# Altium footprint library WIZ-IP55.PcbLib: 1 footprints
Each footprint in its own frame and in the unit in brackets; x right, y up, seen from the top. Pads: shape width x height; smd on the part's side, far side on the other; paste and mask are expansions set on the pad; w line width, h text height; cw(c..) or ccw(c..) is an arc to the next point about the centre after c.
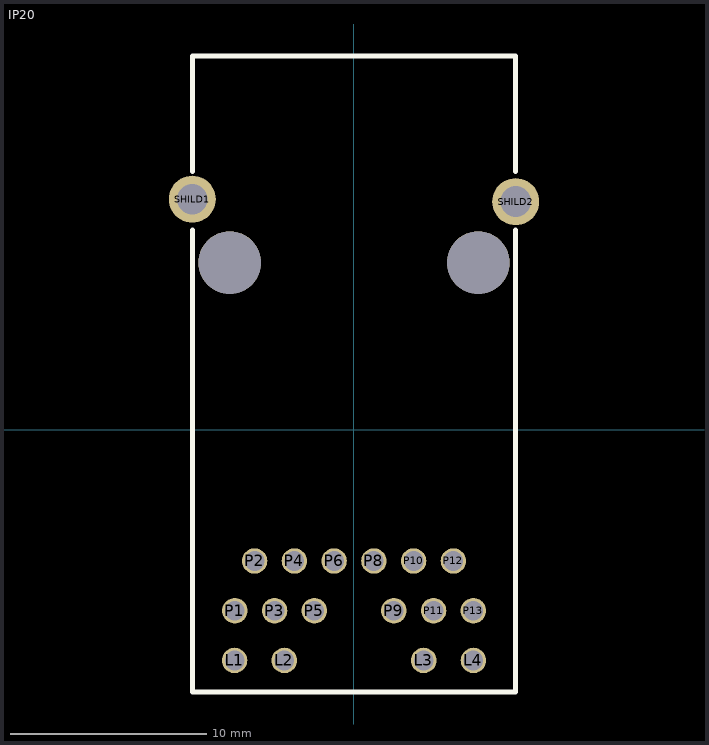
[diagram p0: the footprint, top view; thin cyan lines are the x and y axes]

## IP20 [mm]
pads (20):
  round 1.3 hole 1: L1(-6.1,-11.78) L2(-3.56,-11.78) L3(3.56,-11.78) L4(6.1,-11.78) P1(-6.085,-9.24) P2(-5.075,-6.7) P3(-4.055,-9.24) P4(-3.045,-6.7) P5(-2.025,-9.24) P6(-1.015,-6.7) P8(1.015,-6.7) P9(2.035,-9.24) P10(3.045,-6.7) P11(4.065,-9.24) P12(5.075,-6.7) P13(6.095,-9.24)
  round 2.4 hole 1.57: SHILD1(-8.255,11.78) SHILD2(8.255,11.653)
  round 3.2 hole 3.2 unplated: ""(-6.35,8.54) ""(6.35,8.54)
Top Overlay:
  lines w0.254: -8.25,10.199 -8.25,-13.4 8.25,-13.4 8.25,10.199 ; -8.25,13.2 -8.25,19.099 8.25,19.099 8.25,13.2
3D body: height 13.4, standoff 0.1, extent -7.6,-2.369 7.4,10.7
3D body "User Library-WE-RJ45 LAN HPLE RJ45 LAN Transformer_799111614_W㉨rthElektronik.step": height 14.9, standoff -4, extent -9.935,-13.589 9.935,19.431